# Altium footprint library hddr_6x1_0.PcbLib: 1 footprints
Each footprint in its own frame and in the unit in brackets; x right, y up, seen from the top. Pads: shape width x height; smd on the part's side, far side on the other; paste and mask are expansions set on the pad; w line width, h text height; cw(c..) or ccw(c..) is an arc to the next point about the centre after c.
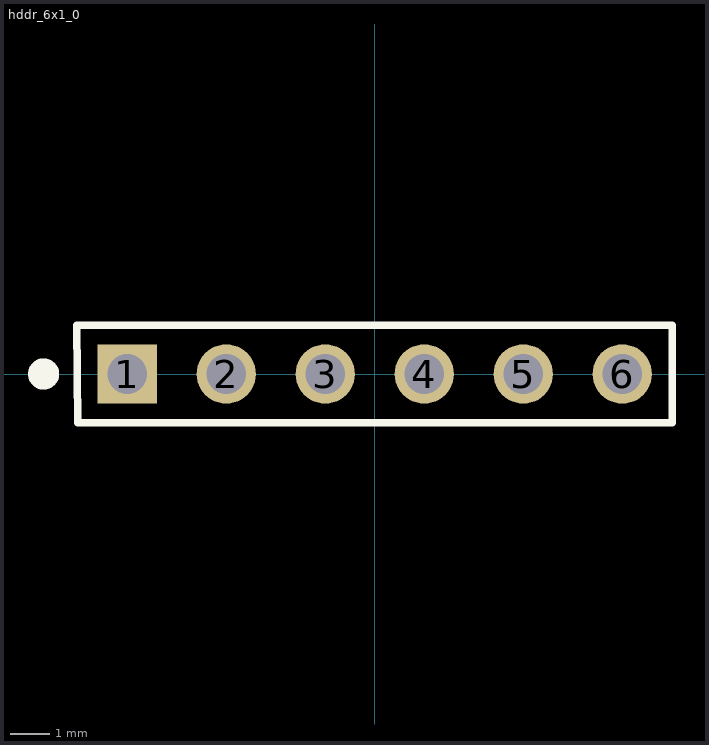
[diagram p0: the footprint, top view; thin cyan lines are the x and y axes]

## hddr_6x1_0 [mil] "0.1\" Header 6x1"
pads (6):
  rect 60x60 hole 40: 1(-250.2,0)
  round 60 hole 40: 2(-150.2,0) 3(-50.2,0) 4(49.8,0) 5(149.8,0) 6(249.8,0)
Top Overlay:
  circle w15.75: c-334.65,0 r7.87
  lines w7.87: -301.18,49.21 -300.2,-49.21 300.2,-49.21 300.2,49.21 -300.2,49.21
3D body "hddr_male_6x1.SLDPRT": height 336.22, standoff -118.11, extent -301.18,-48.82 298.82,51.18